# EAGLE library part XR-2206D-F (library Exar_By_element14_Batch_1)
Monolithic Function Generator
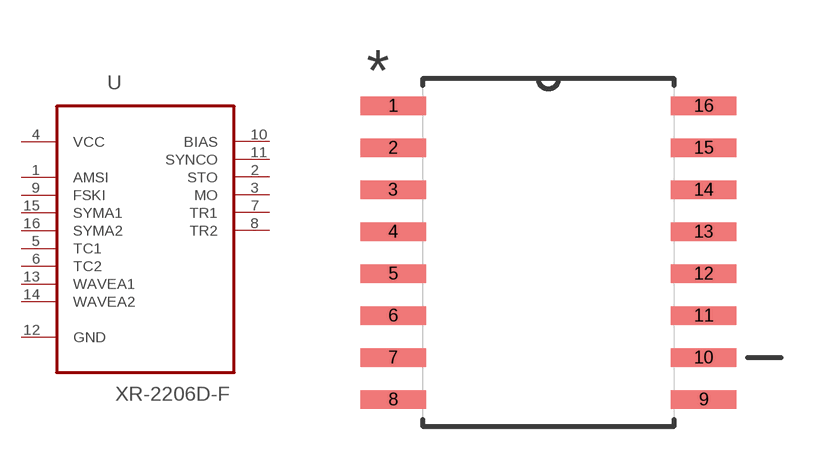
[diagram p62: symbol with the pads of SOIC127P1032X265-16N; footprint SOIC127P1032X265-16N]

Designator prefix U

## XR-2206D-F (MPN: XR2206D-F; OC_FARNELL: -; OC_NEWARK: 24R2366; PACKAGE: SOIC-16; SUPPLIER: Exar)  [SOIC127P1032X265-16N]
1  AMSI  in
2  STO  out
3  MO  out
4  VCC  pwr
5  TC1  in
6  TC2  in
7  TR1  out
8  TR2  out
9  FSKI  in
10  BIAS  out
11  SYNCO  out
12  GND  pas
13  WAVEA1  in
14  WAVEA2  in
15  SYMA1  pas
16  SYMA2  pas

## Footprint SOIC127P1032X265-16N (pad centres in mm)
smd 1.981 x 0.559: 1 -4.699,4.445; 2 -4.699,3.175; 3 -4.699,1.905; 4 -4.699,0.635; 5 -4.699,-0.635; 6 -4.699,-1.905; 7 -4.699,-3.175; 8 -4.699,-4.445; 9 4.699,-4.445; 10 4.699,-3.175; 11 4.699,-1.905; 12 4.699,-0.635; 13 4.699,0.635; 14 4.699,1.905; 15 4.699,3.175; 16 4.699,4.445